# Altium schematic symbol library SKY13575-639LF.SchLib: 1 symbol
Pins are listed as number, name and electrical type; pins without a type are passive.

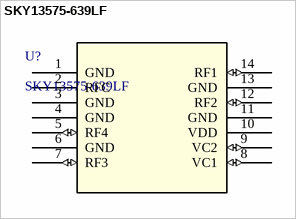
[diagram p0: symbol SKY13575-639LF]

## SKY13575-639LF
designator U?
Description; Manufacturer_Name: Skyworks; Copyright: Copyright (C) 2025 Ultra Librarian. All rights reserved.; Manufacturer_Part_Number: SKY13575-639LF; RefDes: RefDes; Type: Type
footprint QFN12_4x3_SKY13575_SKY
pins: 1 GND (power), 2 RFC, 3 GND (power), 4 GND (power), 5 RF4 (io), 6 GND (power), 7 RF3 (io), 8 VC1 (io), 9 VC2 (io), 10 VDD (power), 11 GND (power), 12 RF2 (io), 13 GND (power), 14 RF1 (io)